# EAGLE library part SDRAM-16MX16-STSOP (library xsa-200)
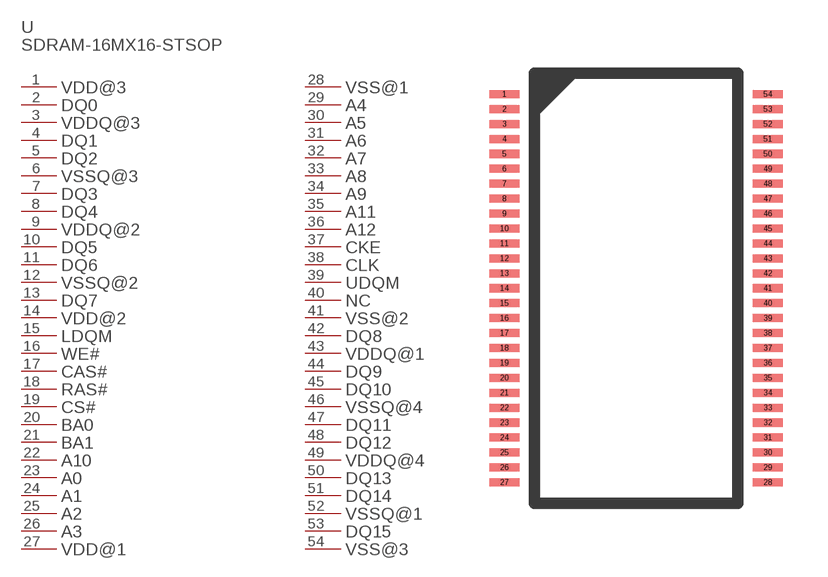
[diagram p0: symbol with the pads of SDRAM-16MX16-STSOP; footprint SDRAM-16MX16-STSOP]

Designator prefix U; gates PART_VALUE=PART_VALUE-SDRAM-16MX16-STSOP VDD@3=PL-SDRAM-16MX16-STSOP DQ0=PL-SDRAM-16MX16-STSOP VDDQ@3=PL-SDRAM-16MX16-STSOP DQ1=PL-SDRAM-16MX16-STSOP DQ2=PL-SDRAM-16MX16-STSOP VSSQ@3=PL-SDRAM-16MX16-STSOP DQ3=PL-SDRAM-16MX16-STSOP DQ4=PL-SDRAM-16MX16-STSOP VDDQ@2=PL-SDRAM-16MX16-STSOP DQ5=PL-SDRAM-16MX16-STSOP DQ6=PL-SDRAM-16MX16-STSOP VSSQ@2=PL-SDRAM-16MX16-STSOP DQ7=PL-SDRAM-16MX16-STSOP VDD@2=PL-SDRAM-16MX16-STSOP LDQM=PL-SDRAM-16MX16-STSOP WE#=PL-SDRAM-16MX16-STSOP CAS#=PL-SDRAM-16MX16-STSOP RAS#=PL-SDRAM-16MX16-STSOP CS#=PL-SDRAM-16MX16-STSOP BA0=PL-SDRAM-16MX16-STSOP BA1=PL-SDRAM-16MX16-STSOP A10=PL-SDRAM-16MX16-STSOP A0=PL-SDRAM-16MX16-STSOP A1=PL-SDRAM-16MX16-STSOP A2=PL-SDRAM-16MX16-STSOP A3=PL-SDRAM-16MX16-STSOP VDD@1=PL-SDRAM-16MX16-STSOP VSS@1=PL-SDRAM-16MX16-STSOP A4=PL-SDRAM-16MX16-STSOP A5=PL-SDRAM-16MX16-STSOP A6=PL-SDRAM-16MX16-STSOP A7=PL-SDRAM-16MX16-STSOP A8=PL-SDRAM-16MX16-STSOP A9=PL-SDRAM-16MX16-STSOP A11=PL-SDRAM-16MX16-STSOP A12=PL-SDRAM-16MX16-STSOP CKE=PL-SDRAM-16MX16-STSOP CLK=PL-SDRAM-16MX16-STSOP UDQM=PL-SDRAM-16MX16-STSOP NC=PL-SDRAM-16MX16-STSOP VSS@2=PL-SDRAM-16MX16-STSOP DQ8=PL-SDRAM-16MX16-STSOP VDDQ@1=PL-SDRAM-16MX16-STSOP DQ9=PL-SDRAM-16MX16-STSOP DQ10=PL-SDRAM-16MX16-STSOP VSSQ@4=PL-SDRAM-16MX16-STSOP DQ11=PL-SDRAM-16MX16-STSOP DQ12=PL-SDRAM-16MX16-STSOP VDDQ@4=PL-SDRAM-16MX16-STSOP DQ13=PL-SDRAM-16MX16-STSOP DQ14=PL-SDRAM-16MX16-STSOP VSSQ@1=PL-SDRAM-16MX16-STSOP DQ15=PL-SDRAM-16MX16-STSOP VSS@3=PL-SDRAM-16MX16-STSOP

## SDRAM-16MX16-STSOP  [SDRAM-16MX16-STSOP]
1  VDD@3:P$1
2  DQ0:P$1
3  VDDQ@3:P$1
4  DQ1:P$1
5  DQ2:P$1
6  VSSQ@3:P$1
7  DQ3:P$1
8  DQ4:P$1
9  VDDQ@2:P$1
10  DQ5:P$1
11  DQ6:P$1
12  VSSQ@2:P$1
13  DQ7:P$1
14  VDD@2:P$1
15  LDQM:P$1
16  WE#:P$1
17  CAS#:P$1
18  RAS#:P$1
19  CS#:P$1
20  BA0:P$1
21  BA1:P$1
22  A10:P$1
23  A0:P$1
24  A1:P$1
25  A2:P$1
26  A3:P$1
27  VDD@1:P$1
28  VSS@1:P$1
29  A4:P$1
30  A5:P$1
31  A6:P$1
32  A7:P$1
33  A8:P$1
34  A9:P$1
35  A11:P$1
36  A12:P$1
37  CKE:P$1
38  CLK:P$1
39  UDQM:P$1
40  NC:P$1
41  VSS@2:P$1
42  DQ8:P$1
43  VDDQ@1:P$1
44  DQ9:P$1
45  DQ10:P$1
46  VSSQ@4:P$1
47  DQ11:P$1
48  DQ12:P$1
49  VDDQ@4:P$1
50  DQ13:P$1
51  DQ14:P$1
52  VSSQ@1:P$1
53  DQ15:P$1
54  VSS@3:P$1

## Footprint SDRAM-16MX16-STSOP (pad centres in mm)
smd 1 x 0.27: 1 0,0; 2 0,-0.5; 3 0,-1; 4 0,-1.5; 5 0,-2; 6 0,-2.5; 7 0,-3; 8 0,-3.5; 9 0,-4; 10 0,-4.5; 11 0,-5; 12 0,-5.5; 13 0,-6; 14 0,-6.5; 15 0,-7; 16 0,-7.5; 17 0,-8; 18 0,-8.5; 19 0,-9; 20 0,-9.5; 21 0,-10; 22 0,-10.5; 23 0,-11; 24 0,-11.5; 25 0,-12; 26 0,-12.5; 27 0,-13; 28 8.82,-13; 29 8.82,-12.5; 30 8.82,-12; 31 8.82,-11.5; 32 8.82,-11; 33 8.82,-10.5; 34 8.82,-10; 35 8.82,-9.5; 36 8.82,-9; 37 8.82,-8.5; 38 8.82,-8; 39 8.82,-7.5; 40 8.82,-7; 41 8.82,-6.5; 42 8.82,-6; 43 8.82,-5.5; 44 8.82,-5; 45 8.82,-4.5; 46 8.82,-4; 47 8.82,-3.5; 48 8.82,-3; 49 8.82,-2.5; 50 8.82,-2; 51 8.82,-1.5; 52 8.82,-1; 53 8.82,-0.5; 54 8.82,0